# EAGLE library part TPA3116/18/30D2 (library BaseApp)
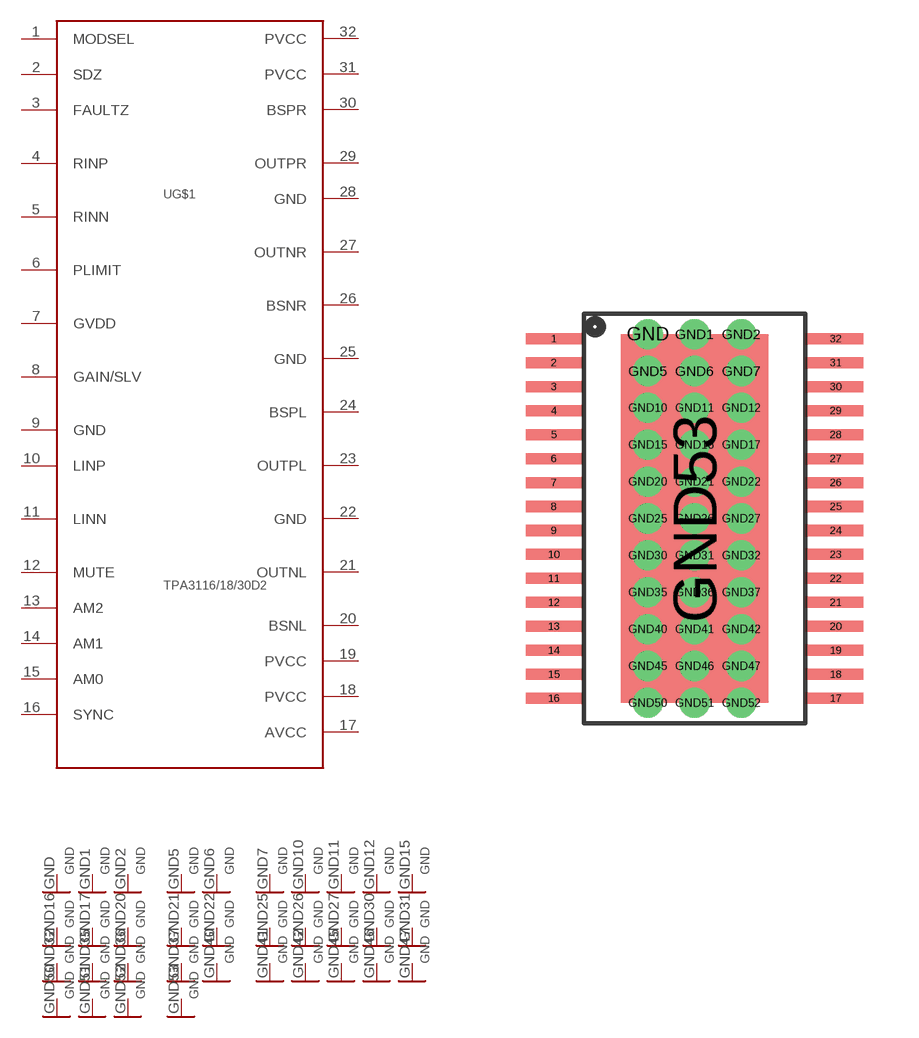
[diagram p119: symbol with the pads of 32HTSOP; footprint 32HTSOP]

Designator prefix -; gates G$1=TPA3116/18/30D2 G$2=GND G$3=GND G$4=GND G$5=GND G$6=GND G$7=GND G$8=GND G$9=GND G$10=GND G$11=GND G$12=GND G$13=GND G$14=GND G$15=GND G$16=GND G$17=GND G$18=GND G$19=GND G$20=GND G$21=GND G$22=GND G$23=GND G$24=GND G$25=GND G$26=GND G$27=GND G$28=GND G$29=GND G$30=GND G$31=GND G$32=GND G$33=GND G$34=GND G$35=GND

## TPA3116/18/30D2  [32HTSOP]
1  G$1:MODSEL
2  G$1:SDZ
3  G$1:FAULTZ
4  G$1:RINP
5  G$1:RINN
6  G$1:PLIMIT
7  G$1:GVDD
8  G$1:GAIN/SLV
9  G$1:GND
10  G$1:LINP
11  G$1:LINN
12  G$1:MUTE
13  G$1:AM2
14  G$1:AM1
15  G$1:AM0
16  G$1:SYNC
17  G$1:AVCC
18  G$1:PVCC
19  G$1:PVCC
20  G$1:BSNL
21  G$1:OUTNL
22  G$1:GND
23  G$1:OUTPL
24  G$1:BSPL
25  G$1:GND
26  G$1:BSNR
27  G$1:OUTNR
28  G$1:GND
29  G$1:OUTPR
30  G$1:BSPR
31  G$1:PVCC
32  G$1:PVCC
GND  G$2:GND  sup
GND1  G$3:GND  sup
GND2  G$4:GND  sup
GND5  G$5:GND  sup
GND6  G$6:GND  sup
GND7  G$7:GND  sup
GND10  G$8:GND  sup
GND11  G$9:GND  sup
GND12  G$10:GND  sup
GND15  G$11:GND  sup
GND16  G$12:GND  sup
GND17  G$13:GND  sup
GND20  G$14:GND  sup
GND21  G$15:GND  sup
GND22  G$16:GND  sup
GND25  G$17:GND  sup
GND26  G$18:GND  sup
GND27  G$19:GND  sup
GND30  G$20:GND  sup
GND31  G$21:GND  sup
GND32  G$22:GND  sup
GND35  G$23:GND  sup
GND36  G$24:GND  sup
GND37  G$25:GND  sup
GND40  G$26:GND  sup
GND41  G$27:GND  sup
GND42  G$28:GND  sup
GND45  G$29:GND  sup
GND46  G$30:GND  sup
GND47  G$31:GND  sup
GND50  G$32:GND  sup
GND51  G$33:GND  sup
GND52  G$34:GND  sup
GND53  G$35:GND  sup

## Footprint 32HTSOP (pad centres in mm)
smd 1.5 x 0.3: 1 -3.825,4.875; 2 -3.825,4.225; 3 -3.825,3.575; 4 -3.825,2.925; 5 -3.825,2.275; 6 -3.825,1.625; 7 -3.825,0.975; 8 -3.825,0.325; 9 -3.825,-0.325; 10 -3.825,-0.975; 11 -3.825,-1.625; 12 -3.825,-2.275; 13 -3.825,-2.925; 14 -3.825,-3.575; 15 -3.825,-4.225; 16 -3.825,-4.875; 17 3.825,-4.875; 18 3.825,-4.225; 19 3.825,-3.575; 20 3.825,-2.925; 21 3.825,-2.275; 22 3.825,-1.625; 23 3.825,-0.975; 24 3.825,-0.325; 25 3.825,0.325; 26 3.825,0.975; 27 3.825,1.625; 28 3.825,2.275; 29 3.825,2.925; 30 3.825,3.575; 31 3.825,4.225; 32 3.825,4.875
drill 0.31: GND -1.27,5; GND1 0,5; GND2 1.27,5; GND5 -1.27,4; GND6 0,4; GND7 1.27,4; GND10 -1.27,3; GND11 0,3; GND12 1.27,3; GND15 -1.27,2; GND16 0,2; GND17 1.27,2; GND20 -1.27,1; GND21 0,1; GND22 1.27,1; GND25 -1.27,0; GND26 0,0; GND27 1.27,0; GND30 -1.27,-1; GND31 0,-1; GND32 1.27,-1; GND35 -1.27,-2; GND36 0,-2; GND37 1.27,-2; GND40 -1.27,-3; GND41 0,-3; GND42 1.27,-3; GND45 -1.27,-4; GND46 0,-4; GND47 1.27,-4; GND50 -1.27,-5; GND51 0,-5; GND52 1.27,-5
smd 4 x 10: GND53 0,0